# EAGLE library part IC74HC164 (library chuong)
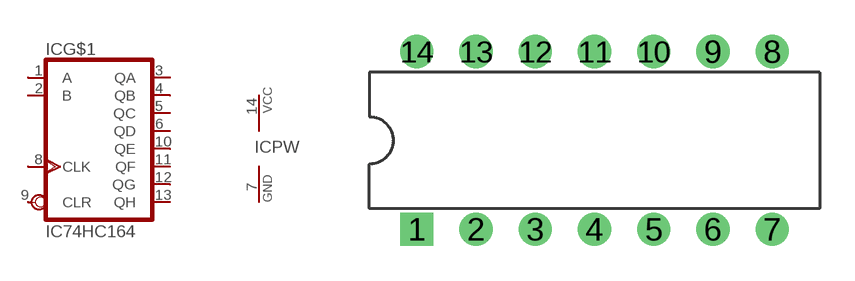
[diagram p39: symbol with the pads of DIL-14; footprint DIL-14]

Designator prefix IC; gates G$1=IC74HC164 PW=POWER

## IC74HC164  [DIL-14]
1  G$1:A  in
2  G$1:B  in
3  G$1:QA  out
4  G$1:QB  out
5  G$1:QC  out
6  G$1:QD  out
7  PW:GND  pwr
8  G$1:CLK  in
9  G$1:CLR  in
10  G$1:QE  out
11  G$1:QF  out
12  G$1:QG  out
13  G$1:QH  out
14  PW:VCC  pwr

## Footprint DIL-14 (pad centres in mm)
drill 0.61 pad 1.422 square: 1 -7.62,-3.81
drill 0.61 pad 1.422 round: 2 -5.08,-3.81; 3 -2.54,-3.81; 4 0,-3.81; 5 2.54,-3.81; 6 5.08,-3.81; 7 7.62,-3.81; 8 7.62,3.81; 9 5.08,3.81; 10 2.54,3.81; 11 0,3.81; 12 -2.54,3.81; 13 -5.08,3.81; 14 -7.62,3.81